# Altium footprint library Discrete_Capacitors_Ceramic_SMD.PcbLib: 3 footprints
Each footprint in its own frame and in the unit in brackets; x right, y up, seen from the top. Pads: shape width x height; smd on the part's side, far side on the other; paste and mask are expansions set on the pad; w line width, h text height; cw(c..) or ccw(c..) is an arc to the next point about the centre after c.
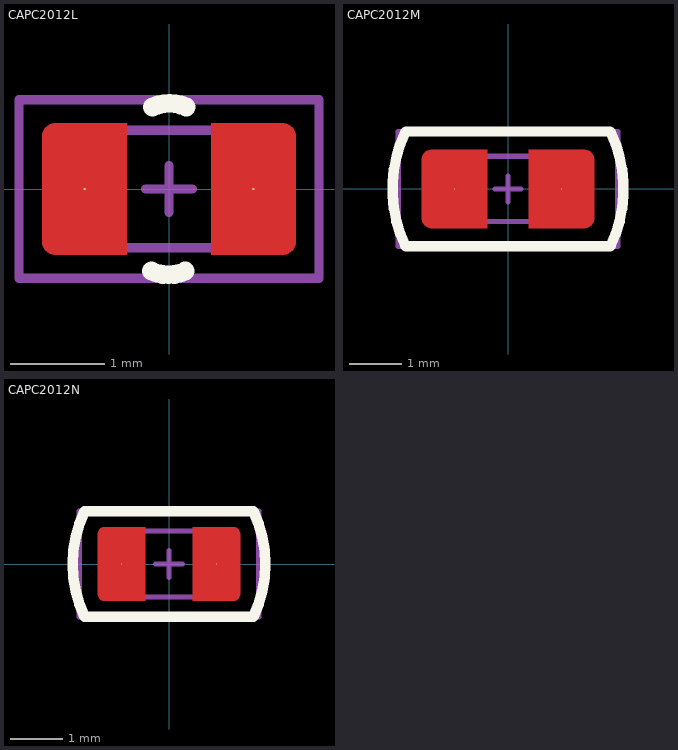
[diagram p0: the footprints below, top view; thin cyan lines are the x and y axes]

## CAPC2012L [mil]
height 57.09
pads (2):
  round 1 smd: 1(-35.43,0) 2(35.43,0)
Top Layer:
  region: -47.83,27.56 -17.72,27.56 -17.72,-27.56 -47.83,-27.56 -48.36,-27.56 -49.38,-27.35 -50.35,-26.95 -51.22,-26.37 -51.96,-25.63 -52.54,-24.76 -52.95,-23.79 -53.15,-22.77 -53.15,-22.24 -53.15,22.24 -53.15,22.77 -52.95,23.79 -52.54,24.76 -51.96,25.63 -51.22,26.37 -50.35,26.95 -49.38,27.35 -48.36,27.56
  region: 47.83,-27.56 17.72,-27.56 17.72,27.56 47.83,27.56 48.36,27.56 49.38,27.35 50.35,26.95 51.22,26.37 51.96,25.63 52.54,24.76 52.95,23.79 53.15,22.77 53.15,22.24 53.15,-22.24 53.15,-22.77 52.95,-23.79 52.54,-24.76 51.96,-25.63 51.22,-26.37 50.35,-26.95 49.38,-27.35 48.36,-27.56
Top Overlay:
  lines w7.87: -7.31,-34.47 ccw(c-0.24,-19.3) 6.83,-34.47 ; -6.89,34.45 cw(c0.18,19.28) 7.25,34.45
Top Package:
  lines w3.94: -24.61,-24.61 -24.61,24.61 ; 23.62,-24.61 23.62,24.61 ; -39.37,-24.61 -39.37,24.61 39.37,24.61 39.37,-24.61 -39.37,-24.61
Top Comment:
  text ".Comment" at -55.67,-12.19 h39.37
Top Designator:
  text ".Designator" at -81.28,-10.42 h47.24
Top Border:
  lines w3.94: -9.84,0 9.84,0 ; 0,-9.84 0,9.84 ; -62.99,-37.4 62.99,-37.4 62.99,37.4 -62.99,37.4 -62.99,-37.4
3D body "CAPC2012.step": height 22.44, standoff 0, extent -39.36,-24.99 39.38,25

## CAPC2012M [mil]
height 57.09
pads (2):
  round 1 smd: 1(-40.35,0) 2(40.35,0)
Top Layer:
  region: 57.58,-29.53 15.75,-29.53 15.75,29.53 57.58,29.53 58.31,29.53 59.73,29.24 61.08,28.69 62.28,27.88 63.31,26.85 64.12,25.64 64.68,24.3 64.96,22.87 64.96,22.15 64.96,-22.15 64.96,-22.87 64.68,-24.3 64.12,-25.64 63.31,-26.85 62.28,-27.88 61.08,-28.69 59.73,-29.24 58.31,-29.53
  region: -57.58,29.53 -15.75,29.53 -15.75,-29.53 -57.58,-29.53 -58.31,-29.53 -59.73,-29.24 -61.08,-28.69 -62.28,-27.88 -63.31,-26.85 -64.12,-25.64 -64.68,-24.3 -64.96,-22.87 -64.96,-22.15 -64.96,22.15 -64.96,22.87 -64.68,24.3 -64.12,25.64 -63.31,26.85 -62.28,27.88 -61.08,28.69 -59.73,29.24 -58.31,29.53
Top Overlay:
  lines w7.87: -77.54,-42.69 cw(c13.01,-0.05) -77.51,42.67 ; -76.77,-43.31 76.77,-43.31 ; -76.77,43.31 76.77,43.31 ; 77.51,42.67 cw(c-13.01,-0.05) 77.54,-42.69
Top Package:
  lines w3.94: -24.61,-24.61 -24.61,24.61 ; 23.62,-24.61 23.62,24.61 ; -39.37,-24.61 39.37,-24.61 39.37,24.61 -39.37,24.61 -39.37,-24.61
Top Comment:
  text ".Comment" at -67.04,-14.8 h47.24
Top Designator:
  text ".Designator" at -101.6,-13.17 h59.06
Top Border:
  lines w3.94: -9.84,0 9.84,0 ; 0,-9.84 0,9.84 ; -82.68,-43.31 -82.68,43.31 82.68,43.31 82.68,-43.31 -82.68,-43.31
3D body "User Library-Res_Vishay_CRCW0805_2012.step": height 17.76, standoff 0, extent -39.36,-24.6 39.38,24.61
3D body "CAPC2012.step": height 22.44, standoff 0, extent -39.36,-24.99 39.38,25

## CAPC2012N [mil]
height 57.09
pads (2):
  round 1 smd: 1(-35.43,0) 2(35.43,0)
Top Layer:
  region: 47.83,-27.56 17.72,-27.56 17.72,27.56 47.83,27.56 48.36,27.56 49.38,27.35 50.35,26.95 51.22,26.37 51.96,25.63 52.54,24.76 52.95,23.79 53.15,22.77 53.15,22.24 53.15,-22.24 53.15,-22.77 52.95,-23.79 52.54,-24.76 51.96,-25.63 51.22,-26.37 50.35,-26.95 49.38,-27.35 48.36,-27.56
  region: -47.83,27.56 -17.72,27.56 -17.72,-27.56 -47.83,-27.56 -48.36,-27.56 -49.38,-27.35 -50.35,-26.95 -51.22,-26.37 -51.96,-25.63 -52.54,-24.76 -52.95,-23.79 -53.15,-22.77 -53.15,-22.24 -53.15,22.24 -53.15,22.77 -52.95,23.79 -52.54,24.76 -51.96,25.63 -51.22,26.37 -50.35,26.95 -49.38,27.35 -48.36,27.56
Top Overlay:
  lines w7.87: -62.99,-39.37 cw(c20.01,0) -62.99,39.37 62.99,39.37 cw(c-20.01,0) 62.99,-39.37 -62.99,-39.37
Top Package:
  lines w3.94: -24.61,-24.61 -24.61,24.61 ; 23.62,-24.61 23.62,24.61 ; -39.37,-24.61 39.37,-24.61 39.37,24.61 -39.37,24.61 -39.37,-24.61
Top Comment:
  text ".Comment" at -67.04,-14.8 h47.24
Top Designator:
  text ".Designator" at -101.6,-13.17 h59.06
Top Border:
  lines w3.94: -9.84,0 9.84,0 ; 0,-9.84 0,9.84 ; -66.93,-39.37 -66.93,39.37 66.93,39.37 66.93,-39.37 -66.93,-39.37
3D body "CAPC2012.step": height 22.44, standoff 0, extent -39.36,-24.99 39.38,25